# EAGLE library part AXN420330S (library SMORSE_Chao)
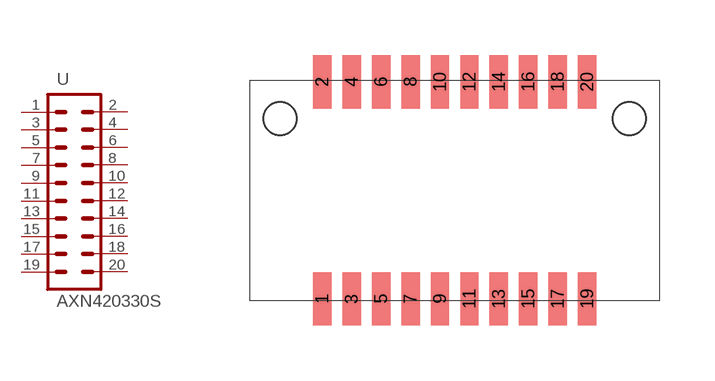
[diagram p18: symbol with the pads of AXN420330S; footprint AXN420330S]

Designator prefix -

## AXN420330S  [AXN420330S]
1  1  pas
2  2  pas
3  3  pas
4  4  pas
5  5  pas
6  6  pas
7  7  pas
8  8  pas
9  9  pas
10  10  pas
11  11  pas
12  12  pas
13  13  pas
14  14  pas
15  15  pas
16  16  pas
17  17  pas
18  18  pas
19  19  pas
20  20  pas

## Footprint AXN420330S (pad centres in mm)
smd 0.5 x 1.45: 1 -3.6,-2.95; 2 -3.6,2.95; 3 -2.8,-2.95; 4 -2.8,2.95; 5 -2,-2.95; 6 -2,2.95; 7 -1.2,-2.95; 8 -1.2,2.95; 9 -0.4,-2.95; 10 -0.4,2.95; 11 0.4,-2.95; 12 0.4,2.95; 13 1.2,-2.95; 14 1.2,2.95; 15 2,-2.95; 16 2,2.95; 17 2.8,-2.95; 18 2.8,2.95; 19 3.6,-2.95; 20 3.6,2.95
hole 0.9 at -4.75,1.95
hole 0.9 at 4.75,1.95